# Altium footprint library Silicon Labs.PcbLib: 22 footprints (part 1 of 2)
Each footprint in its own frame and in the unit in brackets; x right, y up, seen from the top. Pads: shape width x height; smd on the part's side, far side on the other; paste and mask are expansions set on the pad; w line width, h text height; cw(c..) or ccw(c..) is an arc to the next point about the centre after c.
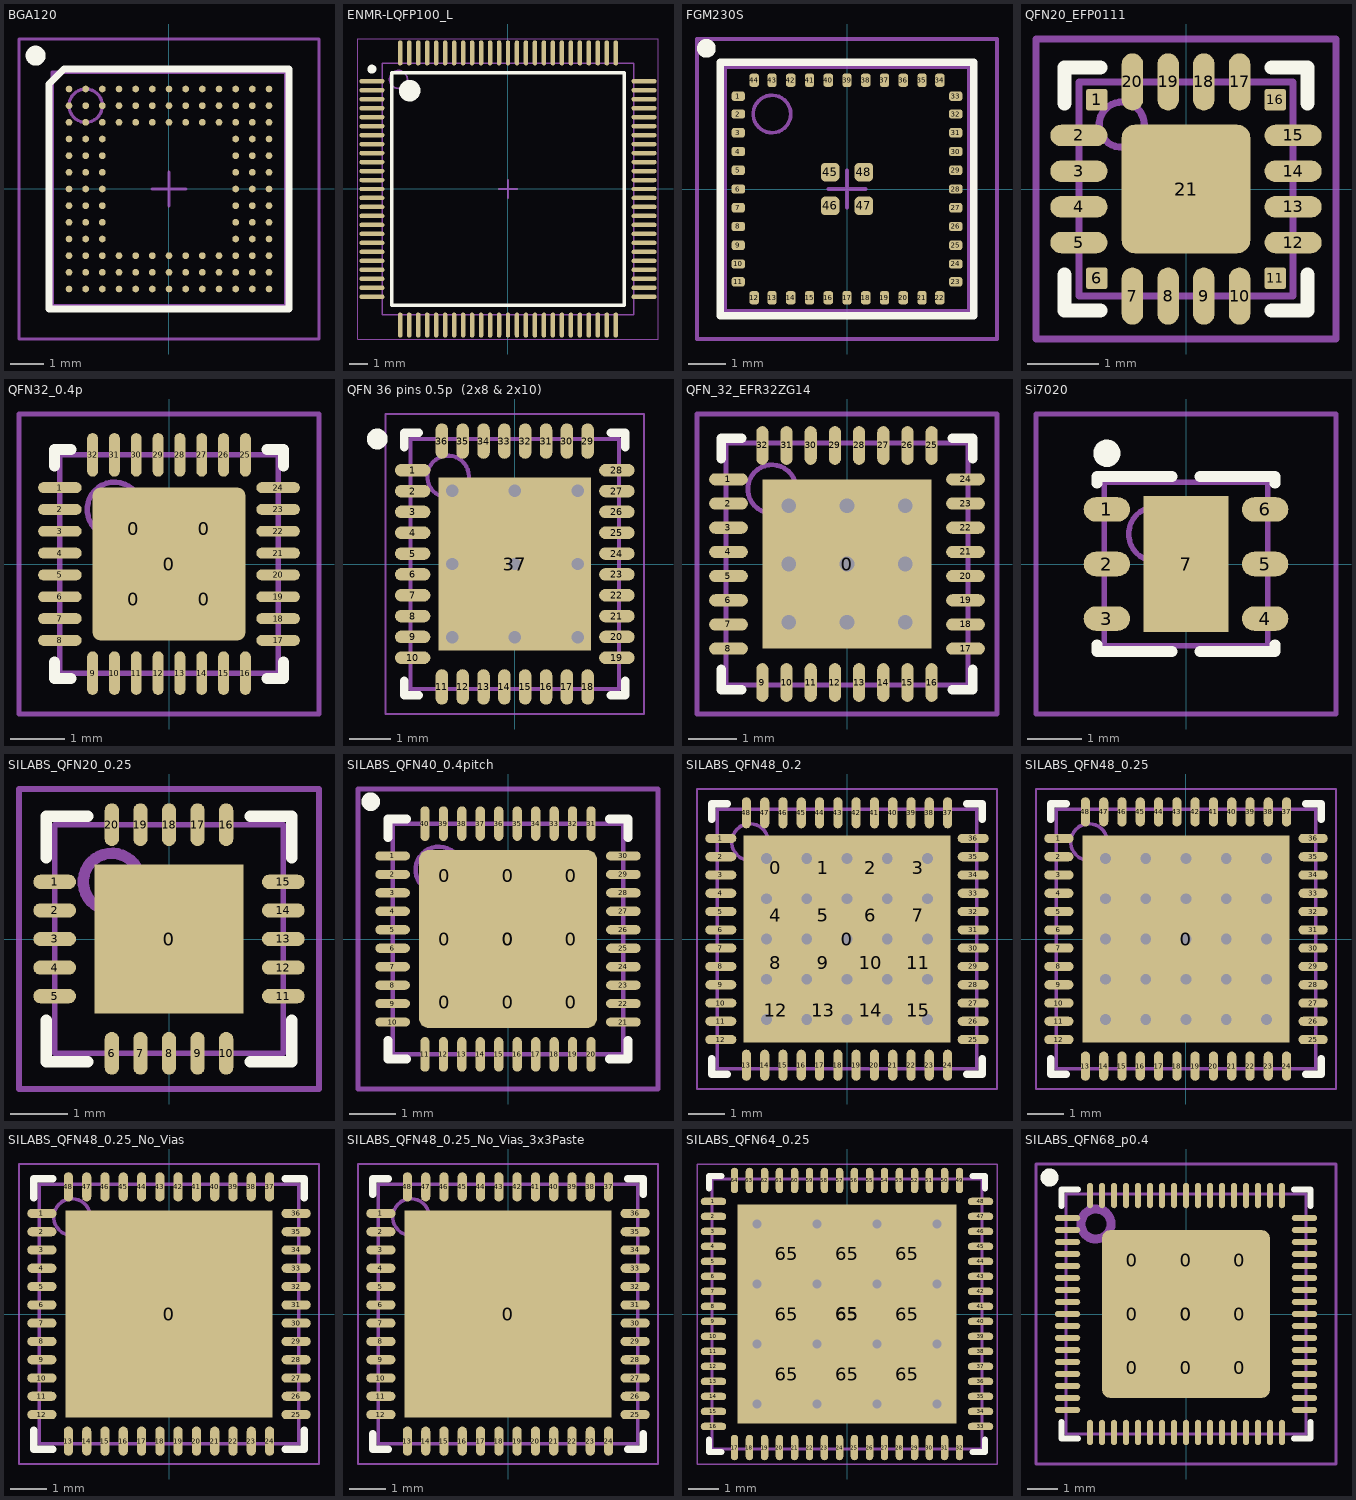
[diagram p0: the footprints below, top view; thin cyan lines are the x and y axes]

## BGA120 [mm]
pads (120):
  round 0.2 smd: A1(-3,3) A2(-2.5,3) A3(-2,3) A4(-1.5,3) A5(-1,3) A6(-0.5,3) A7(0,3) A8(0.5,3) A9(1,3) A10(1.5,3) A11(2,3) A12(2.5,3) A13(3,3) B1(-3,2.5) B2(-2.5,2.5) B3(-2,2.5) B4(-1.5,2.5) B5(-1,2.5) B6(-0.5,2.5) B7(0,2.5) B8(0.5,2.5) B9(1,2.5) B10(1.5,2.5) B11(2,2.5) B12(2.5,2.5) B13(3,2.5) C1(-3,2) C2(-2.5,2) C3(-2,2) C4(-1.5,2) C5(-1,2) C6(-0.5,2) C7(0,2) C8(0.5,2) C9(1,2) C10(1.5,2) C11(2,2) C12(2.5,2) C13(3,2) D1(-3,1.5) D2(-2.5,1.5) D3(-2,1.5) D11(2,1.5) D12(2.5,1.5) D13(3,1.5) E1(-3,1) E2(-2.5,1) E3(-2,1) E11(2,1) E12(2.5,1) E13(3,1) F1(-3,0.5) F2(-2.5,0.5) F3(-2,0.5) F11(2,0.5) F12(2.5,0.5) F13(3,0.5) G1(-3,0) G2(-2.5,0) G3(-2,0) G11(2,0) G12(2.5,0) G13(3,0) H1(-3,-0.5) H2(-2.5,-0.5) H3(-2,-0.5) H11(2,-0.5) H12(2.5,-0.5) H13(3,-0.5) J1(-3,-1) J2(-2.5,-1) J3(-2,-1) J11(2,-1) J12(2.5,-1) J13(3,-1) K1(-3,-1.5) K2(-2.5,-1.5) K3(-2,-1.5) K11(2,-1.5) K12(2.5,-1.5) K13(3,-1.5) L1(-3,-2) L2(-2.5,-2) L3(-2,-2) L4(-1.5,-2) L5(-1,-2) L6(-0.5,-2) L7(0,-2) L8(0.5,-2) L9(1,-2) L10(1.5,-2) L11(2,-2) L12(2.5,-2) L13(3,-2) M1(-3,-2.5) M2(-2.5,-2.5) M3(-2,-2.5) M4(-1.5,-2.5) M5(-1,-2.5) M6(-0.5,-2.5) M7(0,-2.5) M8(0.5,-2.5) M9(1,-2.5) M10(1.5,-2.5) M11(2,-2.5) M12(2.5,-2.5) M13(3,-2.5) N1(-3,-3) N2(-2.5,-3) N3(-2,-3) N4(-1.5,-3) N5(-1,-3) N6(-0.5,-3) N7(0,-3) N8(0.5,-3) N9(1,-3) N10(1.5,-3) N11(2,-3) N12(2.5,-3) N13(3,-3)
Top Overlay:
  circle w0.3: c-4,4 r0.15
  lines w0.2: -3.6,-3.6 -3.6,3.15 -3.15,3.6 3.6,3.6 3.6,-3.6 -3.6,-3.6
Mechanical 13:
  circle w0.1: c-2.5,2.5 r0.5
  lines w0.1: -3.5,-3.5 -3.5,3.5 3.5,3.5 3.5,-3.5 -3.5,-3.5
Mechanical 15:
  lines w0.1: -0.5,0 0.5,0 ; 0,-0.5 0,0.5 ; -4.5,-4.5 4.5,-4.5 4.5,4.5 -4.5,4.5 -4.5,-4.5
3D body: height 0.95, standoff 0, extent -2.996,2.001 -2,2.999
3D body: height 0.9, standoff 0, extent -3.5,-3.5 3.5,3.5

## ENMR-LQFP100_L [mm] "LQFP, 100-Leads, Body 14x14mm, Pitch 0.5mm, IPC High Density"
height 1.6
pads (100):
  oval 1.4x0.25 smd: 1(-7.575,6) 2(-7.575,5.5) 3(-7.575,5) 4(-7.575,4.5) 5(-7.575,4) 6(-7.575,3.5) 7(-7.575,3) 8(-7.575,2.5) 9(-7.575,2) 10(-7.575,1.5) 11(-7.575,1) 12(-7.575,0.5) 13(-7.575,0) 14(-7.575,-0.5) 15(-7.575,-1) 16(-7.575,-1.5) 17(-7.575,-2) 18(-7.575,-2.5) 19(-7.575,-3) 20(-7.575,-3.5) 21(-7.575,-4) 22(-7.575,-4.5) 23(-7.575,-5) 24(-7.575,-5.5) 25(-7.575,-6) 51(7.575,-6) 52(7.575,-5.5) 53(7.575,-5) 54(7.575,-4.5) 55(7.575,-4) 56(7.575,-3.5) 57(7.575,-3) 58(7.575,-2.5) 59(7.575,-2) 60(7.575,-1.5) 61(7.575,-1) 62(7.575,-0.5) 63(7.575,0) 64(7.575,0.5) 65(7.575,1) 66(7.575,1.5) 67(7.575,2) 68(7.575,2.5) 69(7.575,3) 70(7.575,3.5) 71(7.575,4) 72(7.575,4.5) 73(7.575,5) 74(7.575,5.5) 75(7.575,6)
  oval 0.25x1.4 smd: 26(-6,-7.575) 27(-5.5,-7.575) 28(-5,-7.575) 29(-4.5,-7.575) 30(-4,-7.575) 31(-3.5,-7.575) 32(-3,-7.575) 33(-2.5,-7.575) 34(-2,-7.575) 35(-1.5,-7.575) 36(-1,-7.575) 37(-0.5,-7.575) 38(0,-7.575) 39(0.5,-7.575) 40(1,-7.575) 41(1.5,-7.575) 42(2,-7.575) 43(2.5,-7.575) 44(3,-7.575) 45(3.5,-7.575) 46(4,-7.575) 47(4.5,-7.575) 48(5,-7.575) 49(5.5,-7.575) 50(6,-7.575) 76(6,7.575) 77(5.5,7.575) 78(5,7.575) 79(4.5,7.575) 80(4,7.575) 81(3.5,7.575) 82(3,7.575) 83(2.5,7.575) 84(2,7.575) 85(1.5,7.575) 86(1,7.575) 87(0.5,7.575) 88(0,7.575) 89(-0.5,7.575) 90(-1,7.575) 91(-1.5,7.575) 92(-2,7.575) 93(-2.5,7.575) 94(-3,7.575) 95(-3.5,7.575) 96(-4,7.575) 97(-4.5,7.575) 98(-5,7.575) 99(-5.5,7.575) 100(-6,7.575)
Top Overlay:
  circle w0.6: c-5.475,5.475 r0.3
  circle w0.25: c-7.575,6.675 r0.125
  lines w0.2: -6.475,-6.475 6.475,-6.475 6.475,6.475 -6.475,6.475 -6.475,-6.475
Mechanical 13:
  circle w0.1: c-6.1,6.1 r0.5
  lines w0.1: -7,-7 7,-7 7,7 -7,7 -7,-7
Mechanical 15:
  lines w0.05: -8.35,-8.35 8.35,-8.35 8.35,8.35 -8.35,8.35 -8.35,-8.35
  lines w0.1: -0.5,0 0.5,0 ; 0,-0.5 0,0.5
3D body: height 1.61, standoff -0.01, extent -8,-8 8,8

## FGM230S [mm]
height 1.18
pads (48):
  rrect50% 0.35x0.25 smd: 1(-2.9,2.475) 2(-2.9,2) 3(-2.9,1.5) 4(-2.9,1) 5(-2.9,0.5) 6(-2.9,0) 7(-2.9,-0.5) 8(-2.9,-1) 9(-2.9,-1.5) 10(-2.9,-2) 11(-2.9,-2.475) 23(2.9,-2.475) 24(2.9,-2) 25(2.9,-1.5) 26(2.9,-1) 27(2.9,-0.5) 28(2.9,0) 29(2.9,0.5) 30(2.9,1) 31(2.9,1.5) 32(2.9,2) 33(2.9,2.475)
  rrect50% 0.25x0.35 smd: 12(-2.475,-2.9) 13(-2,-2.9) 14(-1.5,-2.9) 15(-1,-2.9) 16(-0.5,-2.9) 17(0,-2.9) 18(0.5,-2.9) 19(1,-2.9) 20(1.5,-2.9) 21(2,-2.9) 22(2.475,-2.9) 34(2.475,2.9) 35(2,2.9) 36(1.5,2.9) 37(1,2.9) 38(0.5,2.9) 39(0,2.9) 40(-0.5,2.9) 41(-1,2.9) 42(-1.5,2.9) 43(-2,2.9) 44(-2.475,2.9)
  rrect50% 0.5x0.5 smd: 45(-0.45,0.45) 46(-0.45,-0.45) 47(0.45,-0.45) 48(0.45,0.45)
Top Overlay:
  circle w0.3: c-3.75,3.75 r0.1
  lines w0.2: -3.375,-3.375 -3.375,3.375 3.375,3.375 3.375,-3.375 -3.375,-3.375
Mechanical 13:
  circle w0.1: c-2,2 r0.5
  lines w0.1: -3.25,-3.25 -3.25,3.25 3.25,3.25 3.25,-3.25 -3.25,-3.25
Mechanical 15:
  lines w0.1: -0.5,0 0.5,0 ; 0,-0.5 0,0.5 ; -4,-4 4,-4 4,4 -4,4 -4,-4
3D body: height 1.18, standoff 0, extent -3.25,-3.25 3.25,3.25

## QFN20_EFP0111 [mm] "QFN20_EFP0111"
height 0.9
pads (21):
  rrect20% 0.3x0.3 smd: 1(-1.25,1.25) 6(-1.25,-1.25) 11(1.25,-1.25) 16(1.25,1.25)
  oval 0.8x0.3 smd: 2(-1.5,0.75) 3(-1.5,0.25) 4(-1.5,-0.25) 5(-1.5,-0.75) 12(1.5,-0.75) 13(1.5,-0.25) 14(1.5,0.25) 15(1.5,0.75)
  oval 0.3x0.8 smd: 7(-0.75,-1.5) 8(-0.25,-1.5) 9(0.25,-1.5) 10(0.75,-1.5) 17(0.75,1.5) 18(0.25,1.5) 19(-0.25,1.5) 20(-0.75,1.5)
  rrect20% 1.8x1.8 smd: 21(0,0)
Top Overlay:
  lines w0.2: -1.7,-1.2 -1.7,-1.7 -1.2,-1.7 ; -1.7,1.2 -1.7,1.7 -1.2,1.7 ; 1.2,-1.7 1.7,-1.7 1.7,-1.2 ; 1.2,1.7 1.7,1.7 1.7,1.2
Mechanical 13:
  circle w0.1: c-0.9,0.9 r0.316
  lines w0.1: -1.5,-1.5 1.5,-1.5 1.5,1.5 -1.5,1.5 -1.5,-1.5
Mechanical 15:
  lines w0.1: -0.2,0 0.2,0 ; 0,-0.2 0,0.2 ; -2.1,-2.1 2.1,-2.1 2.1,2.1 -2.1,2.1 -2.1,-2.1
3D body: height 0.9, standoff 0, extent -1.5,-1.5 1.5,1.5

## QFN32_0.4p [mm] "QFN32 0.4mm pitch"
height 0.8
pads (37):
  rrect20% 1.1x1.1 smd: 0(-0.65,-0.65) 0(-0.65,0.65) 0(0.65,-0.65) 0(0.65,0.65)
  rrect10% 2.8x2.8 smd paste-2: 0(0,0)
  oval 0.8x0.2 smd: 1(-2,1.4) 2(-2,1) 3(-2,0.6) 4(-2,0.2) 5(-2,-0.2) 6(-2,-0.6) 7(-2,-1) 8(-2,-1.4) 17(2,-1.4) 18(2,-1) 19(2,-0.6) 20(2,-0.2) 21(2,0.2) 22(2,0.6) 23(2,1) 24(2,1.4)
  oval 0.2x0.8 smd: 9(-1.4,-2) 10(-1,-2) 11(-0.6,-2) 12(-0.2,-2) 13(0.2,-2) 14(0.6,-2) 15(1,-2) 16(1.4,-2) 25(1.4,2) 26(1,2) 27(0.6,2) 28(0.2,2) 29(-0.2,2) 30(-0.6,2) 31(-1,2) 32(-1.4,2)
Top Overlay:
  lines w0.2: -2.1,-1.8 -2.1,-2.1 -1.8,-2.1 ; -2.1,1.8 -2.1,2.1 -1.8,2.1 ; 1.8,-2.1 2.1,-2.1 2.1,-1.8 ; 1.8,2.1 2.1,2.1 2.1,1.8
Mechanical 13:
  circle w0.1: c-1,1 r0.5
  lines w0.1: -2,-2 -2,2 2,2 2,-2 -2,-2
Mechanical 15:
  lines w0.1: -0.5,0 0.5,0 ; 0,-0.5 0,0.5 ; -2.75,-2.75 -2.75,2.75 2.75,2.75 2.75,-2.75 -2.75,-2.75
3D body: height 0.85, standoff 0, extent -2,-2 2,2
3D body: height 0.9, standoff 0.85, extent -1.5,1 -1.002,1.499

## QFN 36 pins 0.5p  (2x8 & 2x10) [mm] "QFN, 36-Leads, Body 6,00x5,00mm, Pitch 0,50mm, Thermal Pad 3,65x4,15mm, IPC Medium Density"
height 0.8
pads (37):
  oval 0.85x0.3 smd: 1(-2.45,2.25) 2(-2.45,1.75) 3(-2.45,1.25) 4(-2.45,0.75) 5(-2.45,0.25) 6(-2.45,-0.25) 7(-2.45,-0.75) 8(-2.45,-1.25) 9(-2.45,-1.75) 10(-2.45,-2.25) 19(2.45,-2.25) 20(2.45,-1.75) 21(2.45,-1.25) 22(2.45,-0.75) 23(2.45,-0.25) 24(2.45,0.25) 25(2.45,0.75) 26(2.45,1.25) 27(2.45,1.75) 28(2.45,2.25)
  oval 0.3x0.85 smd: 11(-1.75,-2.95) 12(-1.25,-2.95) 13(-0.75,-2.95) 14(-0.25,-2.95) 15(0.25,-2.95) 16(0.75,-2.95) 17(1.25,-2.95) 18(1.75,-2.95) 29(1.75,2.95) 30(1.25,2.95) 31(0.75,2.95) 32(0.25,2.95) 33(-0.25,2.95) 34(-0.75,2.95) 35(-1.25,2.95) 36(-1.75,2.95)
  rect 3.65x4.15 smd paste-2.2: 37(0,0)
via 0,0 diameter 0.62 hole 0.3
via 1.506,1.756 diameter 0.62 hole 0.3
via 0,1.756 diameter 0.62 hole 0.3
via -1.506,1.756 diameter 0.62 hole 0.3
via 1.506,0 diameter 0.62 hole 0.3
via 1.506,-1.756 diameter 0.62 hole 0.3
via -1.506,0 diameter 0.62 hole 0.3
via 0,-1.756 diameter 0.62 hole 0.3
via -1.506,-1.756 diameter 0.62 hole 0.3
Top Overlay:
  circle w0.25: c-3.3,3 r0.125
  lines w0.2: -2.65,-2.8 -2.65,-3.15 -2.3,-3.15 ; -2.65,2.8 -2.65,3.15 -2.3,3.15 ; 2.3,-3.15 2.65,-3.15 2.65,-2.8 ; 2.3,3.15 2.65,3.15 2.65,2.8
Top Paste:
  region: 1.15,-0.093 1.248,-0.112 1.33,-0.167 1.385,-0.25 1.405,-0.348 1.4,-0.348 1.4,-1.398 1.405,-1.398 1.385,-1.495 1.33,-1.578 1.248,-1.633 1.15,-1.652 1.15,-1.648 0.35,-1.652 0.252,-1.633 0.17,-1.578 0.115,-1.495 0.095,-1.398 0.1,-1.398 0.1,-0.348 0.095,-0.348 0.115,-0.25 0.17,-0.167 0.252,-0.112 0.35,-0.093 0.35,-0.098
  region: -0.35,-0.093 -0.252,-0.112 -0.17,-0.167 -0.115,-0.25 -0.095,-0.348 -0.1,-0.348 -0.1,-1.398 -0.095,-1.398 -0.115,-1.495 -0.17,-1.578 -0.252,-1.633 -0.35,-1.652 -0.35,-1.648 -1.15,-1.652 -1.248,-1.633 -1.33,-1.578 -1.385,-1.495 -1.405,-1.398 -1.4,-1.398 -1.4,-0.348 -1.405,-0.348 -1.385,-0.25 -1.33,-0.167 -1.248,-0.112 -1.15,-0.093 -1.15,-0.098
  region: 0.35,0.093 0.252,0.112 0.17,0.167 0.115,0.25 0.095,0.348 0.1,0.348 0.1,1.398 0.095,1.398 0.115,1.495 0.17,1.578 0.252,1.633 0.35,1.652 0.35,1.648 1.15,1.652 1.248,1.633 1.33,1.578 1.385,1.495 1.405,1.398 1.4,1.398 1.4,0.348 1.405,0.348 1.385,0.25 1.33,0.167 1.248,0.112 1.15,0.093 1.15,0.098
  region: -1.15,0.093 -1.248,0.112 -1.33,0.167 -1.385,0.25 -1.405,0.348 -1.4,0.348 -1.4,1.398 -1.405,1.398 -1.385,1.495 -1.33,1.578 -1.248,1.633 -1.15,1.652 -1.15,1.648 -0.35,1.652 -0.252,1.633 -0.17,1.578 -0.115,1.495 -0.095,1.398 -0.1,1.398 -0.1,0.348 -0.095,0.348 -0.115,0.25 -0.17,0.167 -0.252,0.112 -0.35,0.093 -0.35,0.098
  lines w0.05: -1.4,-1.398 ccw(c-1.15,-1.398) -1.15,-1.648 -0.35,-1.648 ccw(c-0.35,-1.398) -0.1,-1.398 -0.1,-0.348 ccw(c-0.35,-0.348) -0.35,-0.098 -1.15,-0.098 ccw(c-1.15,-0.348) -1.4,-0.348 -1.4,-1.398 ; -1.4,0.348 ccw(c-1.15,0.348) -1.15,0.098 -0.35,0.098 ccw(c-0.35,0.348) -0.1,0.348 -0.1,1.398 ccw(c-0.35,1.398) -0.35,1.648 -1.15,1.648 ccw(c-1.15,1.398) -1.4,1.398 -1.4,0.348 ; 0.1,-1.398 ccw(c0.35,-1.398) 0.35,-1.648 1.15,-1.648 ccw(c1.15,-1.398) 1.4,-1.398 1.4,-0.348 ccw(c1.15,-0.348) 1.15,-0.098 0.35,-0.098 ccw(c0.35,-0.348) 0.1,-0.348 0.1,-1.398 ; 0.1,0.348 ccw(c0.35,0.348) 0.35,0.098 1.15,0.098 ccw(c1.15,0.348) 1.4,0.348 1.4,1.398 ccw(c1.15,1.398) 1.15,1.648 0.35,1.648 ccw(c0.35,1.398) 0.1,1.398 0.1,0.348
Mechanical 13:
  circle w0.1: c-1.6,2.1 r0.5
  lines w0.1: -2.5,-3 2.5,-3 2.5,3 -2.5,3 -2.5,-3
Mechanical 15:
  lines w0.05: -3.1,-3.6 3.1,-3.6 3.1,3.6 -3.1,3.6 -3.1,-3.6
  lines w0.1: -0.5,0 0.5,0 ; 0,-0.5 0,0.5
3D body: height 0.8, standoff 0, extent -2.53,-3.03 2.53,3.03

## QFN_32_EFR32ZG14 [mm] "QFN, 32-Leads, Body 5,0x5,0mm (max), Pitch 0,50mm"
height 0.75
pads (33):
  rect 3.5x3.5 smd paste-2: 0(0,0)
  oval 0.8x0.25 smd: 1(-2.45,1.75) 2(-2.45,1.25) 3(-2.45,0.75) 4(-2.45,0.25) 5(-2.45,-0.25) 6(-2.45,-0.75) 7(-2.45,-1.25) 8(-2.45,-1.75) 17(2.45,-1.75) 18(2.45,-1.25) 19(2.45,-0.75) 20(2.45,-0.25) 21(2.45,0.25) 22(2.45,0.75) 23(2.45,1.25) 24(2.45,1.75)
  oval 0.25x0.8 smd: 9(-1.75,-2.45) 10(-1.25,-2.45) 11(-0.75,-2.45) 12(-0.25,-2.45) 13(0.25,-2.45) 14(0.75,-2.45) 15(1.25,-2.45) 16(1.75,-2.45) 25(1.75,2.45) 26(1.25,2.45) 27(0.75,2.45) 28(0.25,2.45) 29(-0.25,2.45) 30(-0.75,2.45) 31(-1.25,2.45) 32(-1.75,2.45)
via 1.2,-1.2 diameter 0.7 hole 0.3
via 0,-1.2 diameter 0.7 hole 0.3
via -1.2,-1.2 diameter 0.7 hole 0.3
via 1.2,0 diameter 0.7 hole 0.3
via 0,0 diameter 0.7 hole 0.3
via -1.2,0 diameter 0.7 hole 0.3
via 1.2,1.2 diameter 0.7 hole 0.3
via 0,1.2 diameter 0.7 hole 0.3
via -1.2,1.2 diameter 0.7 hole 0.3
Top Overlay:
  lines w0.2: -2.6,-2.175 -2.6,-2.6 -2.175,-2.6 ; -2.6,2.175 -2.6,2.6 -2.175,2.6 ; 2.175,-2.6 2.6,-2.6 2.6,-2.175 ; 2.175,2.6 2.6,2.6 2.6,2.175
Top Paste:
  rectangle: -0.45,-0.45 0.45,0.45
  rectangle: -0.45,0.65 0.45,1.55
  rectangle: 0.65,0.65 1.55,1.55
  rectangle: 0.65,-0.45 1.55,0.45
  rectangle: 0.65,-1.55 1.55,-0.65
  rectangle: -0.45,-1.55 0.45,-0.65
  rectangle: -1.55,-1.55 -0.65,-0.65
  rectangle: -1.55,-0.45 -0.65,0.45
  rectangle: -1.55,0.65 -0.65,1.55
Mechanical 13:
  circle w0.1: c-1.55,1.55 r0.5
  lines w0.1: -2.5,-2.5 2.5,-2.5 2.5,2.5 -2.5,2.5 -2.5,-2.5
Mechanical 15:
  lines w0.1: -0.5,0 0.5,0 ; 0,-0.5 0,0.5 ; -3.1,-3.1 3.1,-3.1 3.1,3.1 -3.1,3.1 -3.1,-3.1
3D body: height 0.7, standoff -0.05, extent -2.505,-2.5 2.5,2.5

## Si7020 [mm] "SHT21"
height 1.1
pads (7):
  oval 0.85x0.45 smd: 1(-1.45,1) 2(-1.45,0) 3(-1.45,-1) 4(1.45,-1) 5(1.45,0) 6(1.45,1)
  rect 1.55x2.5 smd paste-0.8: 7(0,0)
Top Overlay:
  circle w0.25: c-1.45,2.03 r0.125
  lines w0.2: -1.635,-1.48 -1.635,-1.605 -0.26,-1.605 ; -1.635,1.48 -1.635,1.605 -0.26,1.605 ; 0.26,-1.605 1.635,-1.605 1.635,-1.48 ; 0.26,1.605 1.635,1.605 1.635,1.48
Top Paste:
  region: 0.5,-0.15 -0.5,-0.15 -0.5,-1.15 0.5,-1.15
  rectangle: -0.5,0.15 0.5,1.15
Mechanical 13:
  circle w0.1: c-0.55,0.55 r0.5
  lines w0.1: -1.5,-1.5 -1.5,1.5 1.5,1.5 1.5,-1.5 -1.5,-1.5
Mechanical 15:
  lines w0.1: -0.5,0 0.5,0 ; 0,-0.5 0,0.5 ; -2.75,-2.75 -2.75,2.75 2.75,2.75 2.75,-2.75 -2.75,-2.75
3D body: height 1.1, standoff 0, extent -1.53,-1.5 1.53,1.5

## SILABS_QFN20_0.25 [mm]
pads (21):
  rect 2.6x2.6 smd paste-3: 0(0,0)
  oval 0.75x0.25 smd: 1(-2,1) 2(-2,0.5) 3(-2,0) 4(-2,-0.5) 5(-2,-1) 11(2,-1) 12(2,-0.5) 13(2,0) 14(2,0.5) 15(2,1)
  oval 0.25x0.75 smd: 6(-1,-2) 7(-0.5,-2) 8(0,-2) 9(0.5,-2) 10(1,-2) 16(1,2) 17(0.5,2) 18(0,2) 19(-0.5,2) 20(-1,2)
Top Overlay:
  lines w0.2: -2.15,-1.425 -2.15,-2.15 -1.425,-2.15 ; -2.15,1.425 -2.15,2.15 -1.425,2.15 ; 1.425,-2.15 2.15,-2.15 2.15,-1.425 ; 1.425,2.15 2.15,2.15 2.15,1.425
Top Paste:
  lines w0.55: -0.925,-0.925 -0.375,-0.925 -0.375,-0.375 -0.925,-0.375 -0.925,-0.925 ; -0.925,0.375 -0.375,0.375 -0.375,0.925 -0.925,0.925 -0.925,0.375 ; 0.375,-0.925 0.925,-0.925 0.925,-0.375 0.375,-0.375 0.375,-0.925 ; 0.375,0.375 0.925,0.375 0.925,0.925 0.375,0.925 0.375,0.375
Mechanical 13:
  circle w0.2: c-1,1 r0.5
  lines w0.1: -2,-2 -2,2 2,2 2,-2 -2,-2
Mechanical 15:
  lines w0.1: -0.5,0 0.5,0 ; 0,-0.5 0,0.5 ; -2.625,-2.625 -2.625,2.625 2.625,2.625 2.625,-2.625 -2.625,-2.625
3D body: height 0.9, standoff 0, extent -2,-2 2,2

## SILABS_QFN40_0.4pitch [mm] "QFN40, 0.4mm pitch"
height 0.85
pads (50):
  rrect10% 0.9x0.9 smd: 0(-1.375,-1.375) 0(-1.375,0) 0(-1.375,1.375) 0(0,-1.375) 0(0,0) 0(0,1.375) 0(1.375,-1.375) 0(1.375,0) 0(1.375,1.375)
  rrect10% 3.85x3.85 smd paste-4: 0(0,0)
  oval 0.75x0.2 smd: 1(-2.5,1.8) 2(-2.5,1.4) 3(-2.5,1) 4(-2.5,0.6) 5(-2.5,0.2) 6(-2.5,-0.2) 7(-2.5,-0.6) 8(-2.5,-1) 9(-2.5,-1.4) 10(-2.5,-1.8) 21(2.5,-1.8) 22(2.5,-1.4) 23(2.5,-1) 24(2.5,-0.6) 25(2.5,-0.2) 26(2.5,0.2) 27(2.5,0.6) 28(2.5,1) 29(2.5,1.4) 30(2.5,1.8)
  oval 0.2x0.75 smd: 11(-1.8,-2.5) 12(-1.4,-2.5) 13(-1,-2.5) 14(-0.6,-2.5) 15(-0.2,-2.5) 16(0.2,-2.5) 17(0.6,-2.5) 18(1,-2.5) 19(1.4,-2.5) 20(1.8,-2.5) 31(1.8,2.5) 32(1.4,2.5) 33(1,2.5) 34(0.6,2.5) 35(0.2,2.5) 36(-0.2,2.5) 37(-0.6,2.5) 38(-1,2.5) 39(-1.4,2.5) 40(-1.8,2.5)
Top Overlay:
  circle w0.3: c-2.975,2.975 r0.05
  lines w0.2: -2.6,-2.2 -2.6,-2.6 -2.2,-2.6 ; -2.6,2.2 -2.6,2.6 -2.2,2.6 ; 2.2,-2.6 2.6,-2.6 2.6,-2.2 ; 2.2,2.6 2.6,2.6 2.6,2.2
Mechanical 13:
  circle w0.1: c-1.5,1.5 r0.5
  lines w0.1: -2.5,-2.5 2.5,-2.5 2.5,2.5 -2.5,2.5 -2.5,-2.5
Mechanical 15:
  lines w0.1: -0.5,0 0.5,0 ; 0,-0.5 0,0.5 ; -3.25,-3.25 -3.25,3.25 3.25,3.25 3.25,-3.25 -3.25,-3.25
3D body: height 0.85, standoff 0, extent -2.5,-2.5 2.5,2.5

## SILABS_QFN48_0.2 [mm]
height 0.85
pads (65):
  rect 1.1x1.1 on Top Paste: 0(-1.95,1.95) 1(-0.65,1.95) 2(0.65,1.95) 3(1.95,1.95) 4(-1.95,0.65) 5(-0.65,0.65) 6(0.65,0.65) 7(1.95,0.65) 8(-1.95,-0.65) 9(-0.65,-0.65) 10(0.65,-0.65) 11(1.95,-0.65) 12(-1.95,-1.95) 13(-0.65,-1.95) 14(0.65,-1.95) 15(1.95,-1.95)
  rect 5.65x5.65 smd paste-10: 0(0,0)
  oval 0.85x0.25 smd: 1(-3.45,2.75) 2(-3.45,2.25) 3(-3.45,1.75) 4(-3.45,1.25) 5(-3.45,0.75) 6(-3.45,0.25) 7(-3.45,-0.25) 8(-3.45,-0.75) 9(-3.45,-1.25) 10(-3.45,-1.75) 11(-3.45,-2.25) 12(-3.45,-2.75) 25(3.45,-2.75) 26(3.45,-2.25) 27(3.45,-1.75) 28(3.45,-1.25) 29(3.45,-0.75) 30(3.45,-0.25) 31(3.45,0.25) 32(3.45,0.75) 33(3.45,1.25) 34(3.45,1.75) 35(3.45,2.25) 36(3.45,2.75)
  oval 0.25x0.85 smd: 13(-2.75,-3.45) 14(-2.25,-3.45) 15(-1.75,-3.45) 16(-1.25,-3.45) 17(-0.75,-3.45) 18(-0.25,-3.45) 19(0.25,-3.45) 20(0.75,-3.45) 21(1.25,-3.45) 22(1.75,-3.45) 23(2.25,-3.45) 24(2.75,-3.45) 37(2.75,3.45) 38(2.25,3.45) 39(1.75,3.45) 40(1.25,3.45) 41(0.75,3.45) 42(0.25,3.45) 43(-0.25,3.45) 44(-0.75,3.45) 45(-1.25,3.45) 46(-1.75,3.45) 47(-2.25,3.45) 48(-2.75,3.45)
via -2.2,2.2 diameter 0.7 hole 0.3
via -1.1,2.2 diameter 0.7 hole 0.3
via 0,2.2 diameter 0.7 hole 0.3
via 1.1,2.2 diameter 0.7 hole 0.3
via 2.2,2.2 diameter 0.7 hole 0.3
via -2.2,1.1 diameter 0.7 hole 0.3
via -1.1,1.1 diameter 0.7 hole 0.3
via 0,1.1 diameter 0.7 hole 0.3
via 1.1,1.1 diameter 0.7 hole 0.3
via 2.2,1.1 diameter 0.7 hole 0.3
via -2.2,0 diameter 0.7 hole 0.3
via -1.1,0 diameter 0.7 hole 0.3
via 0,0 diameter 0.7 hole 0.3
via 1.1,0 diameter 0.7 hole 0.3
via 2.2,0 diameter 0.7 hole 0.3
via -2.2,-1.1 diameter 0.7 hole 0.3
via -1.1,-1.1 diameter 0.7 hole 0.3
via 0,-1.1 diameter 0.7 hole 0.3
via 1.1,-1.1 diameter 0.7 hole 0.3
via 2.2,-1.1 diameter 0.7 hole 0.3
via -2.2,-2.2 diameter 0.7 hole 0.3
via -1.1,-2.2 diameter 0.7 hole 0.3
via 0,-2.2 diameter 0.7 hole 0.3
via 1.1,-2.2 diameter 0.7 hole 0.3
via 2.2,-2.2 diameter 0.7 hole 0.3
Top Overlay:
  lines w0.2: -3.7,-3.275 -3.7,-3.7 -3.275,-3.7 ; -3.7,3.275 -3.7,3.7 -3.275,3.7 ; 3.275,-3.7 3.7,-3.7 3.7,-3.275 ; 3.275,3.7 3.7,3.7 3.7,3.275
Mechanical 13:
  circle w0.1: c-2.65,2.65 r0.5
  lines w0.1: -3.55,-3.55 -3.55,3.55 3.55,3.55 3.55,-3.55 -3.55,-3.55
Mechanical 15:
  lines w0.05: -4.1,-4.1 -4.1,4.1 4.1,4.1 4.1,-4.1 -4.1,-4.1
  lines w0.1: -0.5,0 0.5,0 ; 0,-0.5 0,0.5
3D body: height 0.85, standoff 0, extent -3.585,-3.585 3.585,3.585

## SILABS_QFN48_0.25 [mm] "QFN, 48-Leads, Body 7,00x7,00mm, Pitch 0,50mm, Thermal Pad 5,65x5,65mm, IPC Medium Density"
height 0.85
pads (49):
  rect 5.65x5.65 smd paste-10: 0(0,0)
  oval 0.8x0.25 smd: 1(-3.475,2.75) 2(-3.475,2.25) 3(-3.475,1.75) 4(-3.475,1.25) 5(-3.475,0.75) 6(-3.475,0.25) 7(-3.475,-0.25) 8(-3.475,-0.75) 9(-3.475,-1.25) 10(-3.475,-1.75) 11(-3.475,-2.25) 12(-3.475,-2.75) 25(3.475,-2.75) 26(3.475,-2.25) 27(3.475,-1.75) 28(3.475,-1.25) 29(3.475,-0.75) 30(3.475,-0.25) 31(3.475,0.25) 32(3.475,0.75) 33(3.475,1.25) 34(3.475,1.75) 35(3.475,2.25) 36(3.475,2.75)
  oval 0.25x0.8 smd: 13(-2.75,-3.475) 14(-2.25,-3.475) 15(-1.75,-3.475) 16(-1.25,-3.475) 17(-0.75,-3.475) 18(-0.25,-3.475) 19(0.25,-3.475) 20(0.75,-3.475) 21(1.25,-3.475) 22(1.75,-3.475) 23(2.25,-3.475) 24(2.75,-3.475) 37(2.75,3.475) 38(2.25,3.475) 39(1.75,3.475) 40(1.25,3.475) 41(0.75,3.475) 42(0.25,3.475) 43(-0.25,3.475) 44(-0.75,3.475) 45(-1.25,3.475) 46(-1.75,3.475) 47(-2.25,3.475) 48(-2.75,3.475)
via 2.2,-2.2 diameter 0.7 hole 0.3
via 1.1,-2.2 diameter 0.7 hole 0.3
via 0,-2.2 diameter 0.7 hole 0.3
via -1.1,-2.2 diameter 0.7 hole 0.3
via -2.2,-2.2 diameter 0.7 hole 0.3
via 2.2,-1.1 diameter 0.7 hole 0.3
via 1.1,-1.1 diameter 0.7 hole 0.3
via 0,-1.1 diameter 0.7 hole 0.3
via -1.1,-1.1 diameter 0.7 hole 0.3
via -2.2,-1.1 diameter 0.7 hole 0.3
via 2.2,0 diameter 0.7 hole 0.3
via 1.1,0 diameter 0.7 hole 0.3
via 0,0 diameter 0.7 hole 0.3
via -1.1,0 diameter 0.7 hole 0.3
via -2.2,0 diameter 0.7 hole 0.3
via 2.2,1.1 diameter 0.7 hole 0.3
via 1.1,1.1 diameter 0.7 hole 0.3
via 0,1.1 diameter 0.7 hole 0.3
via -1.1,1.1 diameter 0.7 hole 0.3
via -2.2,1.1 diameter 0.7 hole 0.3
via 2.2,2.2 diameter 0.7 hole 0.3
via 1.1,2.2 diameter 0.7 hole 0.3
via 0,2.2 diameter 0.7 hole 0.3
via -1.1,2.2 diameter 0.7 hole 0.3
via -2.2,2.2 diameter 0.7 hole 0.3
Top Overlay:
  lines w0.2: -3.7,-3.275 -3.7,-3.7 -3.275,-3.7 ; -3.7,3.275 -3.7,3.7 -3.275,3.7 ; 3.275,-3.7 3.7,-3.7 3.7,-3.275 ; 3.275,3.7 3.7,3.7 3.7,3.275
Top Paste:
  rectangle: 1.4,1.4 2.5,2.5
  rectangle: 0.1,1.4 1.2,2.5
  rectangle: -1.2,1.4 -0.1,2.5
  rectangle: -2.5,1.4 -1.4,2.5
  rectangle: -2.5,0.1 -1.4,1.2
  rectangle: -1.2,0.1 -0.1,1.2
  rectangle: 0.1,0.1 1.2,1.2
  rectangle: 1.4,0.1 2.5,1.2
  rectangle: 1.4,-1.2 2.5,-0.1
  rectangle: 1.4,-2.5 2.5,-1.4
  rectangle: 0.1,-2.5 1.2,-1.4
  rectangle: -1.2,-2.5 -0.1,-1.4
  rectangle: -2.5,-2.5 -1.4,-1.4
  rectangle: -2.5,-1.2 -1.4,-0.1
  rectangle: -1.2,-1.2 -0.1,-0.1
  rectangle: 0.1,-1.2 1.2,-0.1
Mechanical 13:
  circle w0.1: c-2.65,2.65 r0.5
  lines w0.1: -3.55,-3.55 3.55,-3.55 3.55,3.55 -3.55,3.55 -3.55,-3.55
Mechanical 15:
  lines w0.05: -4.1,-4.1 4.1,-4.1 4.1,4.1 -4.1,4.1 -4.1,-4.1
  lines w0.1: -0.5,0 0.5,0 ; 0,-0.5 0,0.5
3D body: height 0.85, standoff 0, extent -3.585,-3.585 3.585,3.585

## SILABS_QFN48_0.25_No_Vias [mm] "QFN, 48-Leads, Body 7,00x7,00mm, Pitch 0,50mm, Thermal Pad 5,65x5,65mm, IPC Medium Density"
height 0.85
pads (49):
  rect 5.65x5.65 smd paste-10: 0(0,0)
  oval 0.8x0.25 smd: 1(-3.475,2.75) 2(-3.475,2.25) 3(-3.475,1.75) 4(-3.475,1.25) 5(-3.475,0.75) 6(-3.475,0.25) 7(-3.475,-0.25) 8(-3.475,-0.75) 9(-3.475,-1.25) 10(-3.475,-1.75) 11(-3.475,-2.25) 12(-3.475,-2.75) 25(3.475,-2.75) 26(3.475,-2.25) 27(3.475,-1.75) 28(3.475,-1.25) 29(3.475,-0.75) 30(3.475,-0.25) 31(3.475,0.25) 32(3.475,0.75) 33(3.475,1.25) 34(3.475,1.75) 35(3.475,2.25) 36(3.475,2.75)
  oval 0.25x0.8 smd: 13(-2.75,-3.475) 14(-2.25,-3.475) 15(-1.75,-3.475) 16(-1.25,-3.475) 17(-0.75,-3.475) 18(-0.25,-3.475) 19(0.25,-3.475) 20(0.75,-3.475) 21(1.25,-3.475) 22(1.75,-3.475) 23(2.25,-3.475) 24(2.75,-3.475) 37(2.75,3.475) 38(2.25,3.475) 39(1.75,3.475) 40(1.25,3.475) 41(0.75,3.475) 42(0.25,3.475) 43(-0.25,3.475) 44(-0.75,3.475) 45(-1.25,3.475) 46(-1.75,3.475) 47(-2.25,3.475) 48(-2.75,3.475)
Top Overlay:
  lines w0.2: -3.7,-3.175 -3.7,-3.7 -3.175,-3.7 ; -3.7,3.175 -3.7,3.7 -3.175,3.7 ; 3.175,-3.7 3.7,-3.7 3.7,-3.175 ; 3.175,3.7 3.7,3.7 3.7,3.175
Top Paste:
  rectangle: 1.4,-2.5 2.5,-1.4
  rectangle: 0.1,-2.5 1.2,-1.4
  rectangle: -1.2,-2.5 -0.1,-1.4
  rectangle: -2.5,-2.5 -1.4,-1.4
  rectangle: -2.5,-1.2 -1.4,-0.1
  rectangle: -1.2,-1.2 -0.1,-0.1
  rectangle: 0.1,-1.2 1.2,-0.1
  rectangle: 1.4,-1.2 2.5,-0.1
  rectangle: -1.2,1.4 -0.1,2.5
  rectangle: -2.5,1.4 -1.4,2.5
  rectangle: 0.1,1.4 1.2,2.5
  rectangle: 1.4,1.4 2.5,2.5
  rectangle: 1.4,0.1 2.5,1.2
  rectangle: -2.5,0.1 -1.4,1.2
  rectangle: -1.2,0.1 -0.1,1.2
  rectangle: 0.1,0.1 1.2,1.2
Mechanical 13:
  circle w0.1: c-2.65,2.65 r0.5
  lines w0.1: -3.55,-3.55 -3.55,3.55 3.55,3.55 3.55,-3.55 -3.55,-3.55
Mechanical 15:
  lines w0.05: -4.1,-4.1 -4.1,4.1 4.1,4.1 4.1,-4.1 -4.1,-4.1
  lines w0.1: -0.5,0 0.5,0 ; 0,-0.5 0,0.5
3D body: height 0.85, standoff 0, extent -3.585,-3.585 3.585,3.585

## SILABS_QFN48_0.25_No_Vias_3x3Paste [mm] "QFN, 48-Leads, Body 7,00x7,00mm, Pitch 0,50mm, Thermal Pad 5,65x5,65mm, IPC Medium Density"
height 0.85
pads (49):
  rect 5.65x5.65 smd paste-10: 0(0,0)
  oval 0.8x0.25 smd: 1(-3.475,2.75) 2(-3.475,2.25) 3(-3.475,1.75) 4(-3.475,1.25) 5(-3.475,0.75) 6(-3.475,0.25) 7(-3.475,-0.25) 8(-3.475,-0.75) 9(-3.475,-1.25) 10(-3.475,-1.75) 11(-3.475,-2.25) 12(-3.475,-2.75) 25(3.475,-2.75) 26(3.475,-2.25) 27(3.475,-1.75) 28(3.475,-1.25) 29(3.475,-0.75) 30(3.475,-0.25) 31(3.475,0.25) 32(3.475,0.75) 33(3.475,1.25) 34(3.475,1.75) 35(3.475,2.25) 36(3.475,2.75)
  oval 0.25x0.8 smd: 13(-2.75,-3.475) 14(-2.25,-3.475) 15(-1.75,-3.475) 16(-1.25,-3.475) 17(-0.75,-3.475) 18(-0.25,-3.475) 19(0.25,-3.475) 20(0.75,-3.475) 21(1.25,-3.475) 22(1.75,-3.475) 23(2.25,-3.475) 24(2.75,-3.475) 37(2.75,3.475) 38(2.25,3.475) 39(1.75,3.475) 40(1.25,3.475) 41(0.75,3.475) 42(0.25,3.475) 43(-0.25,3.475) 44(-0.75,3.475) 45(-1.25,3.475) 46(-1.75,3.475) 47(-2.25,3.475) 48(-2.75,3.475)
Top Overlay:
  lines w0.2: -3.7,-3.275 -3.7,-3.7 -3.275,-3.7 ; -3.7,3.275 -3.7,3.7 -3.275,3.7 ; 3.275,-3.7 3.7,-3.7 3.7,-3.275 ; 3.275,3.7 3.7,3.7 3.7,3.275
Top Paste:
  region: 0.725,-0.725 0.725,0.725 -0.725,0.725 -0.725,-0.725
  region: 2.475,1.025 2.475,2.475 1.025,2.475 1.025,1.025
  region: -1.025,1.025 -1.025,2.475 -2.475,2.475 -2.475,1.025
  region: 0.725,1.025 0.725,2.475 -0.725,2.475 -0.725,1.025
  region: -1.025,-0.725 -1.025,0.725 -2.475,0.725 -2.475,-0.725
  region: 2.475,0.725 1.025,0.725 1.025,-0.725 2.475,-0.725
  region: 0.725,-2.475 0.725,-1.025 -0.725,-1.025 -0.725,-2.475
  region: 2.475,-2.475 2.475,-1.025 1.025,-1.025 1.025,-2.475
  rectangle: -2.475,-2.475 -1.025,-1.025
Mechanical 13:
  circle w0.1: c-2.65,2.65 r0.5
  lines w0.1: -3.55,-3.55 -3.55,3.55 3.55,3.55 3.55,-3.55 -3.55,-3.55
Mechanical 15:
  lines w0.05: -4.1,-4.1 -4.1,4.1 4.1,4.1 4.1,-4.1 -4.1,-4.1
  lines w0.1: -0.5,0 0.5,0 ; 0,-0.5 0,0.5
3D body: height 0.85, standoff 0, extent -3.585,-3.585 3.585,3.585

## SILABS_QFN64_0.25 [mm] "QFN, 64-Leads, Body 9x9mm, Pitch 0.5mm, Thermal Pad 7.3x7.3mm"
height 0.8
pads (74):
  oval 0.85x0.25 smd: 1(-4.45,3.75) 2(-4.45,3.25) 3(-4.45,2.75) 4(-4.45,2.25) 5(-4.45,1.75) 6(-4.45,1.25) 7(-4.45,0.75) 8(-4.45,0.25) 9(-4.45,-0.25) 10(-4.45,-0.75) 11(-4.45,-1.25) 12(-4.45,-1.75) 13(-4.45,-2.25) 14(-4.45,-2.75) 15(-4.45,-3.25) 16(-4.45,-3.75) 33(4.45,-3.75) 34(4.45,-3.25) 35(4.45,-2.75) 36(4.45,-2.25) 37(4.45,-1.75) 38(4.45,-1.25) 39(4.45,-0.75) 40(4.45,-0.25) 41(4.45,0.25) 42(4.45,0.75) 43(4.45,1.25) 44(4.45,1.75) 45(4.45,2.25) 46(4.45,2.75) 47(4.45,3.25) 48(4.45,3.75)
  oval 0.25x0.85 smd: 17(-3.75,-4.45) 18(-3.25,-4.45) 19(-2.75,-4.45) 20(-2.25,-4.45) 21(-1.75,-4.45) 22(-1.25,-4.45) 23(-0.75,-4.45) 24(-0.25,-4.45) 25(0.25,-4.45) 26(0.75,-4.45) 27(1.25,-4.45) 28(1.75,-4.45) 29(2.25,-4.45) 30(2.75,-4.45) 31(3.25,-4.45) 32(3.75,-4.45) 49(3.75,4.45) 50(3.25,4.45) 51(2.75,4.45) 52(2.25,4.45) 53(1.75,4.45) 54(1.25,4.45) 55(0.75,4.45) 56(0.25,4.45) 57(-0.25,4.45) 58(-0.75,4.45) 59(-1.25,4.45) 60(-1.75,4.45) 61(-2.25,4.45) 62(-2.75,4.45) 63(-3.25,4.45) 64(-3.75,4.45)
  rrect50% 1.45x1.45 smd: 65(-2,-2) 65(-2,0) 65(-2,2) 65(0,-2) 65(0,0) 65(0,2) 65(2,-2) 65(2,0) 65(2,2)
  rect 7.3x7.3 smd paste-7.55: 65(0,0)
via -3,3 diameter 0.7 hole 0.3
via -1,3 diameter 0.7 hole 0.3
via 1,3 diameter 0.7 hole 0.3
via 3,3 diameter 0.7 hole 0.3
via 3,1 diameter 0.7 hole 0.3
via 1,1 diameter 0.7 hole 0.3
via -1,1 diameter 0.7 hole 0.3
via -3,1 diameter 0.7 hole 0.3
via -3,-1 diameter 0.7 hole 0.3
via -1,-1 diameter 0.7 hole 0.3
via 1,-1 diameter 0.7 hole 0.3
via 3,-1 diameter 0.7 hole 0.3
via 3,-3 diameter 0.7 hole 0.3
via 1,-3 diameter 0.7 hole 0.3
via -1,-3 diameter 0.7 hole 0.3
via -3,-3 diameter 0.7 hole 0.3
Top Overlay:
  lines w0.2: -4.6,-4.175 -4.6,-4.6 -4.175,-4.6 ; -4.6,4.175 -4.6,4.6 -4.175,4.6 ; 4.175,-4.6 4.6,-4.6 4.6,-4.175 ; 4.175,4.6 4.6,4.6 4.6,4.175
Mechanical 13:
  lines w0.1: -4.5,-4.5 -4.5,4.5 4.5,4.5 4.5,-4.5 -4.5,-4.5
Mechanical 15:
  lines w0.05: -5,-5 5,-5 5,5 -5,5 -5,-5
  lines w0.1: -0.5,0 0.5,0 ; 0,-0.5 0,0.5
3D body: height 0.9, standoff 0, extent -4.52,-4.52 4.52,4.52

## SILABS_QFN68_p0.4 [mm] "SILABS QFN68 with 0.4mm pitch"
height 0.85
pads (78):
  rrect10% 1.31x1.31 smd: 0(-1.8,-1.8) 0(-1.8,0) 0(-1.8,1.8) 0(0,-1.8) 0(0,0) 0(0,1.8) 0(1.8,-1.8) 0(1.8,0) 0(1.8,1.8)
  rrect10% 5.6x5.6 smd paste-5: 0(0,0)
  oval 0.85x0.2 smd: 1(-3.95,3.2) 2(-3.95,2.8) 3(-3.95,2.4) 4(-3.95,2) 5(-3.95,1.6) 6(-3.95,1.2) 7(-3.95,0.8) 8(-3.95,0.4) 9(-3.95,0) 10(-3.95,-0.4) 11(-3.95,-0.8) 12(-3.95,-1.2) 13(-3.95,-1.6) 14(-3.95,-2) 15(-3.95,-2.4) 16(-3.95,-2.8) 17(-3.95,-3.2) 35(3.95,-3.2) 36(3.95,-2.8) 37(3.95,-2.4) 38(3.95,-2) 39(3.95,-1.6) 40(3.95,-1.2) 41(3.95,-0.8) 42(3.95,-0.4) 43(3.95,0) 44(3.95,0.4) 45(3.95,0.8) 46(3.95,1.2) 47(3.95,1.6) 48(3.95,2) 49(3.95,2.4) 50(3.95,2.8) 51(3.95,3.2)
  oval 0.2x0.85 smd: 18(-3.2,-3.95) 19(-2.8,-3.95) 20(-2.4,-3.95) 21(-2,-3.95) 22(-1.6,-3.95) 23(-1.2,-3.95) 24(-0.8,-3.95) 25(-0.4,-3.95) 26(0,-3.95) 27(0.4,-3.95) 28(0.8,-3.95) 29(1.2,-3.95) 30(1.6,-3.95) 31(2,-3.95) 32(2.4,-3.95) 33(2.8,-3.95) 34(3.2,-3.95) 52(3.2,3.95) 53(2.8,3.95) 54(2.4,3.95) 55(2,3.95) 56(1.6,3.95) 57(1.2,3.95) 58(0.8,3.95) 59(0.4,3.95) 60(0,3.95) 61(-0.4,3.95) 62(-0.8,3.95) 63(-1.2,3.95) 64(-1.6,3.95) 65(-2,3.95) 66(-2.4,3.95) 67(-2.8,3.95) 68(-3.2,3.95)
Top Overlay:
  circle w0.3: c-4.55,4.55 r0.15
  lines w0.2: -4.15,-3.6 -4.15,-4.15 -3.6,-4.15 ; -4.15,3.6 -4.15,4.15 -3.6,4.15 ; 3.6,-4.15 4.15,-4.15 4.15,-3.6 ; 3.6,4.15 4.15,4.15 4.15,3.6
Mechanical 13:
  circle w0.3: c-3,3 r0.5
  lines w0.1: -4,-4 4,-4 4,4 -4,4 -4,-4
Mechanical 15:
  lines w0.1: -0.5,0 0.5,0 ; 0,-0.5 0,0.5 ; -5,-5 -5,5 5,5 5,-5 -5,-5
3D body: height 0.9, standoff 0, extent -4,-4 4,4
3D body: height 0.91, standoff 0, extent -3.496,2.501 -2.5,3.499